# Altium footprint library connector.PcbLib: 28 footprints (part 2 of 2)
Each footprint in its own frame and in the unit in brackets; x right, y up, seen from the top. Pads: shape width x height; smd on the part's side, far side on the other; paste and mask are expansions set on the pad; w line width, h text height; cw(c..) or ccw(c..) is an arc to the next point about the centre after c.
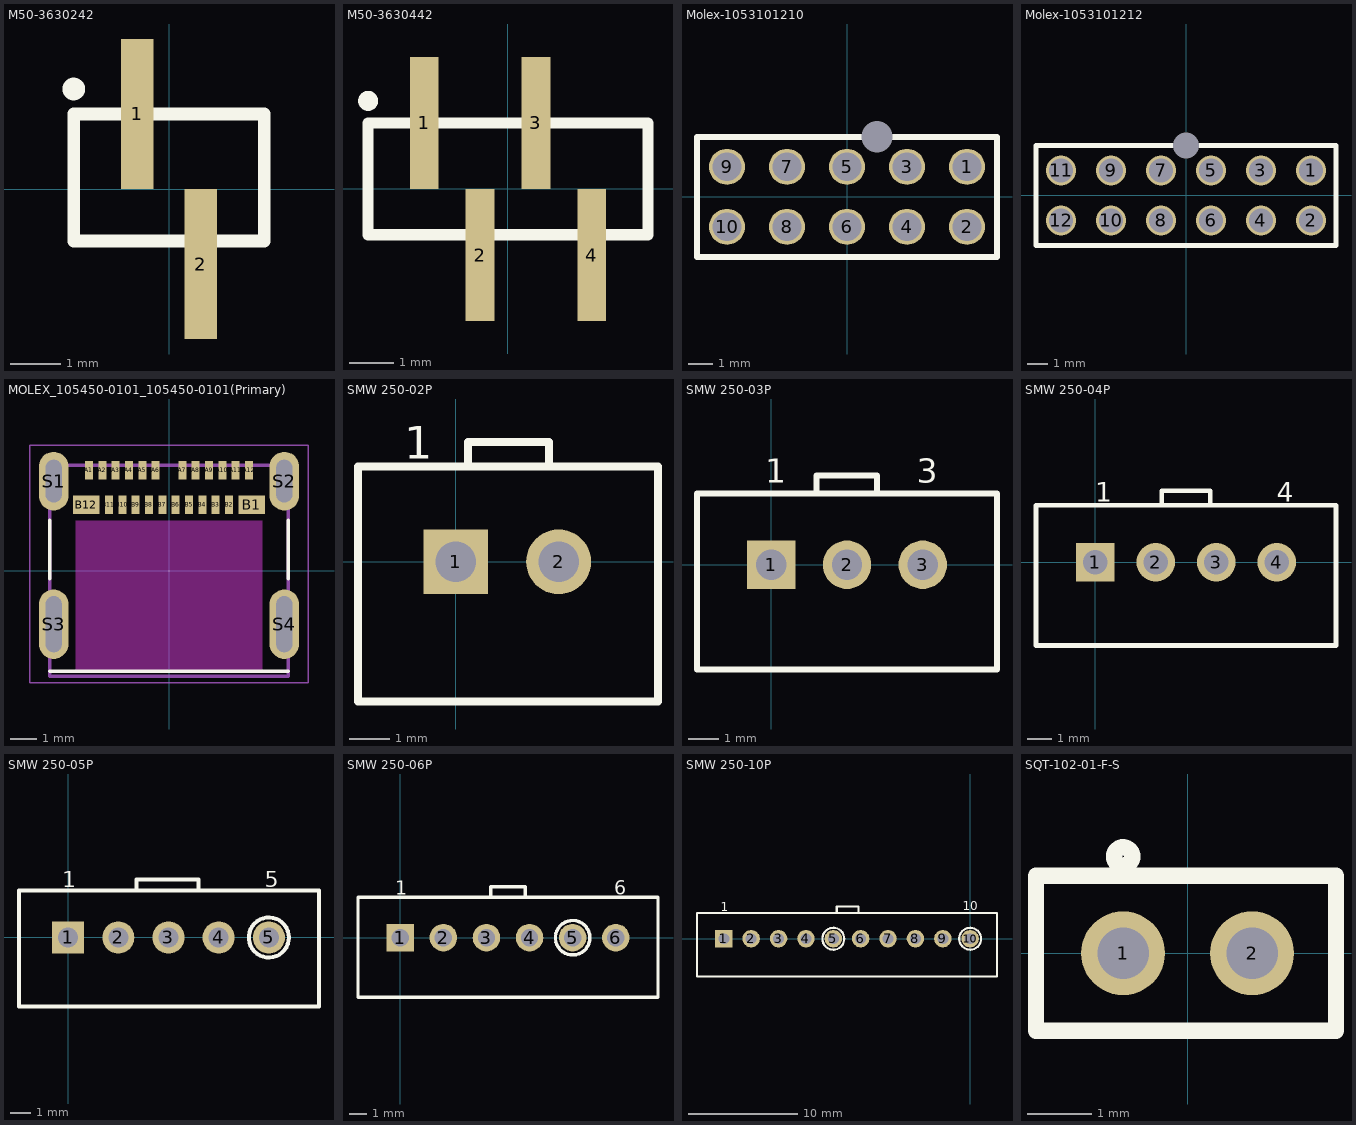
[diagram p1: the footprints below, top view; thin cyan lines are the x and y axes]

## M50-3630242 [mm] "1.27pitch HARWIN"
pads (2):
  rect 0.65x3 smd: 1(-0.635,1.5) 2(0.635,-1.5)
Top Overlay:
  circle w0.254: c-1.905,2 r0.1
  lines w0.254: -1.905,-1.04 1.905,-1.04 1.905,1.5 -1.905,1.5 -1.905,-1.04
3D body "M50-3630242.STEP": height 4.5, standoff 0, extent -1.272,-2.27 1.27,2.73

## M50-3630442 [mm] "1.27pitch HARWIN"
pads (4):
  rect 0.65x3 smd: 1(-1.905,1.5) 2(-0.635,-1.5) 3(0.635,1.5) 4(1.905,-1.5)
Top Overlay:
  circle w0.254: c-3.175,2 r0.1
  lines w0.254: -3.175,-1.04 -3.175,1.5 3.175,1.5 3.175,-1.04 -3.175,-1.04
3D body "M50-3630442.STEP": height 4.5, standoff 0, extent -2.54,-2.413 2.542,2.587

## Molex-1053101210 [mm]
pads (11):
  round 1.5 hole 1.2: 1(5,1.25) 2(5,-1.25) 3(2.5,1.25) 4(2.5,-1.25) 5(0,1.25) 6(0,-1.25) 7(-2.5,1.25) 8(-2.5,-1.25) 9(-5,1.25) 10(-5,-1.25)
  round 0 hole 1.3: a(1.25,2.5)
Top Overlay:
  lines w0.254: -5,2.5 6.25,2.5 6.25,-2.5 -6.25,-2.5 -6.25,2.5 -3.75,2.5
3D body "1053101210-10pin.stp": height 10.58, standoff -3.13, extent -6.72,-2.99 6.72,5.85

## Molex-1053101212 [mm]
pads (13):
  round 1.5 hole 1.2: 1(6.25,1.25) 2(6.25,-1.25) 3(3.75,1.25) 4(3.75,-1.25) 5(1.25,1.25) 6(1.25,-1.25) 7(-1.25,1.25) 8(-1.25,-1.25) 9(-3.75,1.25) 10(-3.75,-1.25) 11(-6.25,1.25) 12(-6.25,-1.25)
  round 0 hole 1.3: a(0,2.5)
Top Overlay:
  lines w0.254: -3.75,2.5 7.5,2.5 7.5,-2.5 -7.5,-2.5 -7.5,2.5 -2.5,2.5
3D body "1053101212.stp": height 10.58, standoff -3.13, extent -7.97,-2.99 7.97,5.85

## MOLEX_105450-0101_105450-0101(Primary) [mm]
pads (28):
  rect 0.3x0.7 smd: A1(-3,3.77) A2(-2.5,3.77) A3(-2,3.77) A4(-1.5,3.77) A5(-1,3.77) A6(-0.5,3.77) A7(0.5,3.77) A8(1,3.77) A9(1.5,3.77) A10(2,3.77) A11(2.5,3.77) A12(3,3.77) B2(2.25,2.47) B3(1.75,2.47) B4(1.25,2.47) B5(0.75,2.47) B6(0.25,2.47) B7(-0.25,2.47) B8(-0.75,2.47) B9(-1.25,2.47) B10(-1.75,2.47) B11(-2.25,2.47)
  rect 1x0.7 smd: B1(3.1,2.47) B12(-3.1,2.47)
  oval 1.1x2.2 hole 0.6 slot 1.6 at 90 deg: S1(-4.32,3.36) S2(4.32,3.36)
  oval 1.1x2.6 hole 0.6 slot 2.1 at 90 deg: S3(-4.32,-2) S4(4.32,-2)
Top Overlay:
  lines w0.127: -4.47,-3.77 4.47,-3.77 ; -4.47,-0.3 -4.47,1.9 ; 4.47,-0.3 4.47,1.9
Keep-Out Layer:
  region: -3.502,1.88 3.5,1.88 3.5,-3.773 -3.502,-3.773
  region: -3.501,1.88 3.5,1.88 3.5,-3.771 -3.501,-3.771
  region: -3.502,1.88 3.5,1.88 3.5,-3.773 -3.502,-3.773
  region: -3.501,1.88 3.5,1.88 3.5,-3.771 -3.501,-3.771
  region: -3.502,1.88 3.5,1.88 3.5,-3.773 -3.502,-3.773
  region: -3.501,1.88 3.5,1.88 3.5,-3.771 -3.501,-3.771
Mechanical 1:
  lines w0: -4.62,-2.75 ccw(c-4.32,-2.75) -4.32,-3.05 ccw(c-4.32,-2.75) -4.02,-2.75 -4.02,-1.25 ccw(c-4.32,-1.25) -4.32,-0.95 ccw(c-4.32,-1.25) -4.62,-1.25 -4.62,-2.75 ; -4.62,2.86 ccw(c-4.32,2.86) -4.32,2.56 ccw(c-4.32,2.86) -4.02,2.86 -4.02,3.86 ccw(c-4.32,3.86) -4.32,4.16 ccw(c-4.32,3.86) -4.62,3.86 -4.62,2.86 ; 4.02,-2.75 ccw(c4.32,-2.75) 4.32,-3.05 ccw(c4.32,-2.75) 4.62,-2.75 4.62,-1.25 ccw(c4.32,-1.25) 4.32,-0.95 ccw(c4.32,-1.25) 4.02,-1.25 4.02,-2.75 ; 4.02,2.86 ccw(c4.32,2.86) 4.32,2.56 ccw(c4.32,2.86) 4.62,2.86 4.62,3.86 ccw(c4.32,3.86) 4.32,4.16 ccw(c4.32,3.86) 4.02,3.86 4.02,2.86
Mechanical 4:
  lines w0.127: -4.47,-3.95 -4.47,3.95 ; -4.47,-3.95 4.47,-3.95 ; -4.47,-3.95 -4.47,3.95 ; -4.47,-3.95 4.47,-3.95 ; -4.47,3.95 4.47,3.95 ; -4.47,3.95 4.47,3.95 ; 4.47,-3.95 4.47,3.95 ; 4.47,-3.95 4.47,3.95
Mechanical 16:
  lines w0.05: -5.22,-4.2 -5.22,4.71 5.22,4.71 5.22,-4.2 -5.22,-4.2
3D body "1054500101.stp": height 3.2, standoff -0.76, extent -4.47,-3.76 4.47,4.14

## SMW 250-02P [mm]
height 14.2
pads (2):
  rect 1.6x1.6 hole 1: 1(0,0)
  round 1.6 hole 1: 2(2.54,0)
Top Overlay:
  lines w0.2: 0.305,2.35 0.305,2.95 2.305,2.95 2.305,2.35 ; -2.41,-3.45 -2.41,2.35 4.99,2.35 4.99,-3.45 -2.41,-3.45
  text "1" at -1.27,2.54 h0.8
3D body "SMW250-02.stp": height 7.1, standoff -3.4, extent -2.41,-3.45 4.99,2.95

## SMW 250-03P [mm]
height 14.2
pads (3):
  rect 1.6x1.6 hole 1: 1(0,0)
  round 1.6 hole 1: 2(2.5,0) 3(5,0)
Top Overlay:
  lines w0.2: 1.495,2.35 1.495,2.95 3.495,2.95 3.495,2.35 ; -2.45,-3.45 7.45,-3.45 7.45,2.35 -2.45,2.35 -2.45,-3.45
  text "1" at -0.2,2.7 h0.8
  text "3" at 4.8,2.7 h0.8
3D body "SMW250-03.stp": height 7.1, standoff -3.4, extent -2.45,-3.4 7.45,3

## SMW 250-04P [mm]
height 5.96
pads (4):
  rect 1.6x1.6 hole 1: 1(0,0)
  round 1.6 hole 1: 2(2.5,0) 3(5,0) 4(7.5,0)
Top Overlay:
  lines w0.2: 2.75,2.35 2.75,2.95 4.75,2.95 4.75,2.35 ; -2.45,-3.45 9.95,-3.45 9.95,2.35 -2.45,2.35 -2.45,-3.45
  text "4" at 7.5,2.5 h0.8
  text "1" at 0,2.5 h0.8
3D body "SMW250-04.stp": height 7.1, standoff -3.4, extent -2.5,-3.4 9.9,3

## SMW 250-05P [mm]
height 5.96
pads (5):
  rect 1.6x1.6 hole 1: 1(0,0)
  round 1.6 hole 1: 2(2.5,0) 3(5,0) 4(7.5,0) 5(10,0)
Top Overlay:
  circle w0.2: c10,0 r1
  lines w0.2: 3.4,2.35 3.4,2.9 6.5,2.9 6.5,2.35 ; -2.45,-3.45 12.5,-3.45 12.5,2.35 -2.45,2.35 -2.45,-3.45
  text "1" at -0.3,2.5 h0.8
  text "5" at 9.8,2.5 h0.8
3D body "SMW250-05.stp": height 7, standoff -3.5, extent -2.47,-3.37 12.43,3.03
3D body: height 0.25, standoff 0, extent -2.5,2.3 -2.5,2.3

## SMW 250-06P [mm]
height 5.96
pads (6):
  rect 1.6x1.6 hole 1: 1(0,0)
  round 1.6 hole 1: 2(2.5,0) 3(5,0) 4(7.5,0) 5(10,0) 6(12.5,0)
Top Overlay:
  circle w0.2: c10,0 r1
  lines w0.2: 5.25,2.35 5.25,2.95 7.25,2.95 7.25,2.35 ; -2.45,-3.45 14.95,-3.45 14.95,2.35 -2.45,2.35 -2.45,-3.45
  text "1" at -0.3,2.5 h0.8
  text "6" at 12.4,2.5 h0.8
3D body "SMW250-06.stp": height 7.1, standoff -3.4, extent -2.4,-3.4 15,3

## SMW 250-10P [mm]
height 6.4
pads (10):
  rect 1.6x1.6 hole 1: 1(-22.5,0)
  round 1.6 hole 1: 2(-20,0) 3(-17.5,0) 4(-15,0) 5(-12.5,0) 6(-10,0) 7(-7.5,0) 8(-5,0) 9(-2.5,0) 10(0,0)
Top Overlay:
  circle w0.2: c0,0 r1
  circle w0.2: c-12.5,0 r1
  lines w0.2: -12.19,2.35 -12.19,2.95 -10.19,2.95 -10.19,2.35 ; -24.95,-3.45 -24.95,2.35 2.45,2.35 2.45,-3.45 -24.95,-3.45
  text "10" at -0.7,2.6 h0.8
  text "1" at -22.8,2.5 h0.8
3D body "SMW250-10.stp": height 7.1, standoff -3.4, extent -25,-3.4 2.4,3

## SQT-102-01-F-S [mm] "2.0mmPItch harwin"
pads (2):
  round 1.3 hole 0.8: 1(-1,0) 2(1,0)
Top Overlay:
  circle w0.254: c-1,1.5 r0.141
  lines w0.254: -2.35,-1.2 -2.35,1.2 2.3,1.2 2.3,-1.2 -2.35,-1.2
3D body "SQT-102-01-F-S.stp": height 6.35, standoff -2.29, extent -2.149,-1 2.149,0.999